# Altium footprint library WS-TATV.PcbLib: 24 footprints (part 2 of 2)
Each footprint in its own frame and in the unit in brackets; x right, y up, seen from the top. Pads: shape width x height; smd on the part's side, far side on the other; paste and mask are expansions set on the pad; w line width, h text height; cw(c..) or ccw(c..) is an arc to the next point about the centre after c.
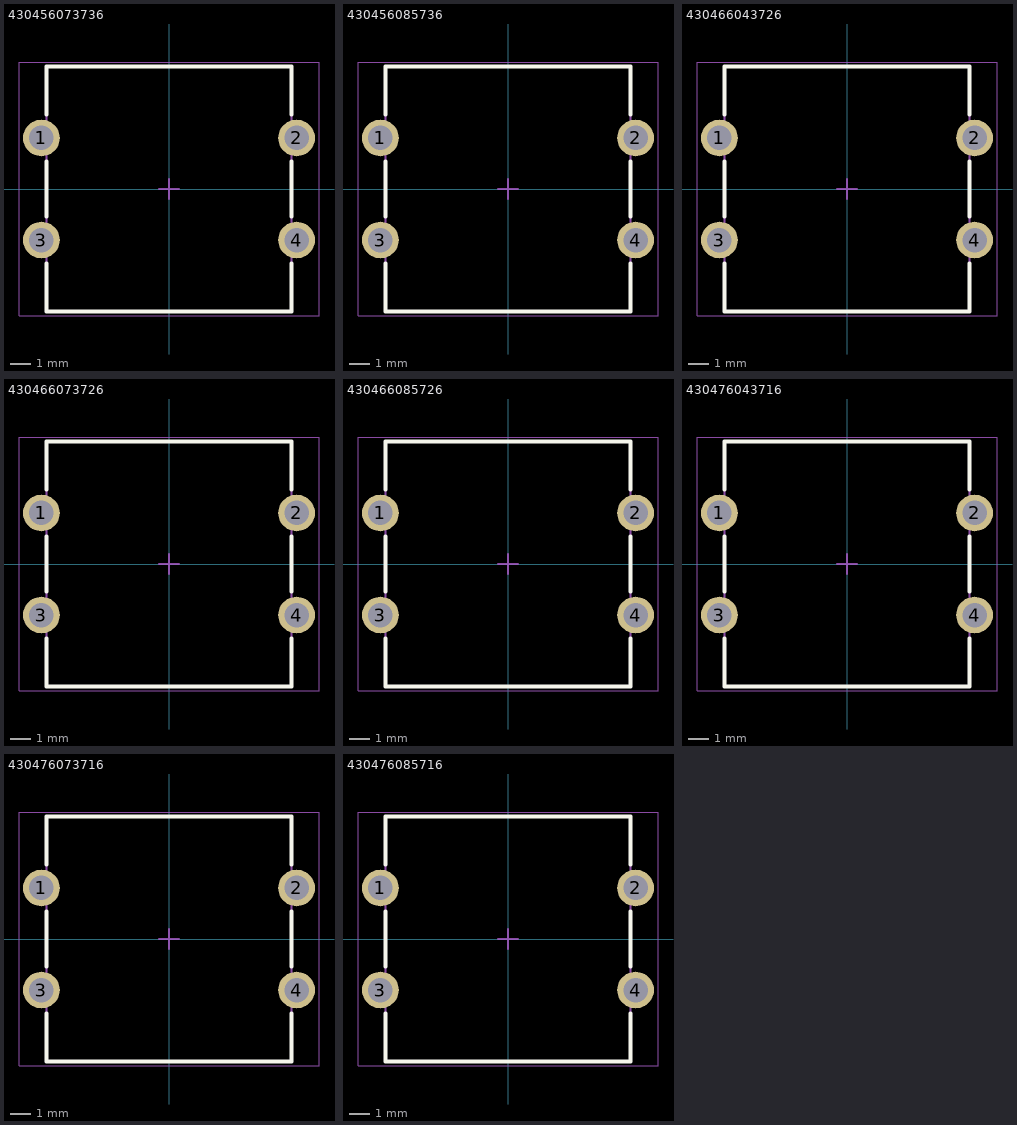
[diagram p1: the footprints below, top view; thin cyan lines are the x and y axes]

## 430456073736 [mm] "12x12mm washable Tact Switch, THT version"
height 7.3
pads (4):
  round 1.8 hole 1.2: 1(-6.25,2.5) 2(6.25,2.5) 3(-6.25,-2.5) 4(6.25,-2.5)
Top Overlay:
  lines w0.2: -6,-3.65 -6,-6 6,-6 6,-3.65 ; -6,-1.35 -6,1.35 ; -6,3.65 -6,6 6,6 6,3.65 ; 6,-1.35 6,1.35
Top Assembly:
  lines w0.1: -6,-6 -6,6 6,6 6,-6 -6,-6
Top Designator:
  text ".Designator" at -3.647,-0.357 h1
Top 3D Body:
  lines w0.1: -6,-6 -6,6 6,6 6,-6 -6,-6
Top Courtyard:
  lines w0.05: -7.35,-6.2 7.35,-6.2 7.35,6.2 -7.35,6.2 -7.35,-6.2
Top Component Center:
  lines w0.1: -0.5,0 0.5,0 ; 0,-0.5 0,0.5
3D body "4304x60737x6.stp": height 7.35, standoff -3.45, extent -6.985,-6 6.986,6

## 430456085736 [mm] "12x12mm washable Tact Switch, THT version"
height 8.5
pads (4):
  round 1.8 hole 1.2: 1(-6.25,2.5) 2(6.25,2.5) 3(-6.25,-2.5) 4(6.25,-2.5)
Top Overlay:
  lines w0.2: -6,-3.65 -6,-6 6,-6 6,-3.65 ; -6,-1.35 -6,1.35 ; -6,3.65 -6,6 6,6 6,3.65 ; 6,-1.35 6,1.35
Top Assembly:
  lines w0.1: -6,-6 -6,6 6,6 6,-6 -6,-6
Top Designator:
  text ".Designator" at -3.647,-0.357 h1
Top 3D Body:
  lines w0.1: -6,-6 -6,6 6,6 6,-6 -6,-6
Top Courtyard:
  lines w0.05: -7.35,-6.2 7.35,-6.2 7.35,6.2 -7.35,6.2 -7.35,-6.2
Top Component Center:
  lines w0.1: -0.5,0 0.5,0 ; 0,-0.5 0,0.5
3D body "4304x60857x6.stp": height 8.55, standoff -3.45, extent -6.985,-6 6.986,6

## 430466043726 [mm] "12x12mm washable Tact Switch, THT version"
height 4.3
pads (4):
  round 1.8 hole 1.2: 1(-6.25,2.5) 2(6.25,2.5) 3(-6.25,-2.5) 4(6.25,-2.5)
Top Overlay:
  lines w0.2: -6,-3.65 -6,-6 6,-6 6,-3.65 ; -6,-1.35 -6,1.35 ; -6,3.65 -6,6 6,6 6,3.65 ; 6,-1.35 6,1.35
Top Assembly:
  lines w0.1: -6,-6 6,-6 6,6 -6,6 -6,-6
Top Designator:
  text ".Designator" at -3.647,-0.357 h1
Top 3D Body:
  lines w0.1: -6,-6 -6,6 6,6 6,-6 -6,-6
Top Courtyard:
  lines w0.05: -7.35,-6.2 -7.35,6.2 7.35,6.2 7.35,-6.2 -7.35,-6.2
Top Component Center:
  lines w0.1: -0.5,0 0.5,0 ; 0,-0.5 0,0.5
3D body "4304x60437x6.stp": height 4.35, standoff -3.45, extent -6.985,-6 6.986,6

## 430466073726 [mm] "12x12mm washable Tact Switch, THT version"
height 7.3
pads (4):
  round 1.8 hole 1.2: 1(-6.25,2.5) 2(6.25,2.5) 3(-6.25,-2.5) 4(6.25,-2.5)
Top Overlay:
  lines w0.2: -6,-3.65 -6,-6 6,-6 6,-3.65 ; -6,-1.35 -6,1.35 ; -6,3.65 -6,6 6,6 6,3.65 ; 6,-1.35 6,1.35
Top Assembly:
  lines w0.1: -6,-6 6,-6 6,6 -6,6 -6,-6
Top Designator:
  text ".Designator" at -3.647,-0.357 h1
Top 3D Body:
  lines w0.1: -6,-6 -6,6 6,6 6,-6 -6,-6
Top Courtyard:
  lines w0.05: -7.35,-6.2 -7.35,6.2 7.35,6.2 7.35,-6.2 -7.35,-6.2
Top Component Center:
  lines w0.1: -0.5,0 0.5,0 ; 0,-0.5 0,0.5
3D body "4304x60737x6.stp": height 7.35, standoff -3.45, extent -6.985,-6 6.986,6

## 430466085726 [mm] "12x12mm washable Tact Switch, THT version"
height 8.5
pads (4):
  round 1.8 hole 1.2: 1(-6.25,2.5) 2(6.25,2.5) 3(-6.25,-2.5) 4(6.25,-2.5)
Top Overlay:
  lines w0.2: -6,-3.65 -6,-6 6,-6 6,-3.65 ; -6,-1.35 -6,1.35 ; -6,3.65 -6,6 6,6 6,3.65 ; 6,-1.35 6,1.35
Top Assembly:
  lines w0.1: -6,-6 6,-6 6,6 -6,6 -6,-6
Top Designator:
  text ".Designator" at -3.647,-0.357 h1
Top 3D Body:
  lines w0.1: -6,-6 -6,6 6,6 6,-6 -6,-6
Top Courtyard:
  lines w0.05: -7.35,-6.2 -7.35,6.2 7.35,6.2 7.35,-6.2 -7.35,-6.2
Top Component Center:
  lines w0.1: -0.5,0 0.5,0 ; 0,-0.5 0,0.5
3D body "4304x60857x6.stp": height 8.55, standoff -3.45, extent -6.985,-6 6.986,6

## 430476043716 [mm] "12x12mm washable Tact Switch, THT version"
height 4.3
pads (4):
  round 1.8 hole 1.2: 1(-6.25,2.5) 2(6.25,2.5) 3(-6.25,-2.5) 4(6.25,-2.5)
Top Overlay:
  lines w0.2: -6,-3.65 -6,-6 6,-6 6,-3.65 ; -6,-1.35 -6,1.35 ; -6,3.65 -6,6 6,6 6,3.65 ; 6,-1.35 6,1.35
Top Assembly:
  lines w0.1: -6,-6 -6,6 6,6 6,-6 -6,-6
Top Designator:
  text ".Designator" at -3.647,-0.357 h1
Top 3D Body:
  lines w0.1: -6,-6 -6,6 6,6 6,-6 -6,-6
Top Courtyard:
  lines w0.05: -7.35,-6.2 7.35,-6.2 7.35,6.2 -7.35,6.2 -7.35,-6.2
Top Component Center:
  lines w0.1: -0.5,0 0.5,0 ; 0,-0.5 0,0.5
3D body "4304x60437x6.stp": height 4.35, standoff -3.45, extent -6.985,-6 6.986,6

## 430476073716 [mm] "12x12mm washable Tact Switch, THT version"
height 7.3
pads (4):
  round 1.8 hole 1.2: 1(-6.25,2.5) 2(6.25,2.5) 3(-6.25,-2.5) 4(6.25,-2.5)
Top Overlay:
  lines w0.2: -6,-3.65 -6,-6 6,-6 6,-3.65 ; -6,-1.35 -6,1.35 ; -6,3.65 -6,6 6,6 6,3.65 ; 6,-1.35 6,1.35
Top Assembly:
  lines w0.1: -6,-6 6,-6 6,6 -6,6 -6,-6
Top Designator:
  text ".Designator" at -3.647,-0.357 h1
Top 3D Body:
  lines w0.1: -6,-6 6,-6 6,6 -6,6 -6,-6
Top Courtyard:
  lines w0.05: -7.35,-6.2 -7.35,6.2 7.35,6.2 7.35,-6.2 -7.35,-6.2
Top Component Center:
  lines w0.1: -0.5,0 0.5,0 ; 0,-0.5 0,0.5
3D body "4304x60737x6.stp": height 7.35, standoff -3.45, extent -6.985,-6 6.986,6

## 430476085716 [mm] "12x12mm washable Tact Switch, THT version"
height 8.5
pads (4):
  round 1.8 hole 1.2: 1(-6.25,2.5) 2(6.25,2.5) 3(-6.25,-2.5) 4(6.25,-2.5)
Top Overlay:
  lines w0.2: -6,-3.65 -6,-6 6,-6 6,-3.65 ; -6,-1.35 -6,1.35 ; -6,3.65 -6,6 6,6 6,3.65 ; 6,-1.35 6,1.35
Top Assembly:
  lines w0.1: -6,-6 -6,6 6,6 6,-6 -6,-6
Top Designator:
  text ".Designator" at -3.647,-0.357 h1
Top 3D Body:
  lines w0.1: -6,-6 -6,6 6,6 6,-6 -6,-6
Top Courtyard:
  lines w0.05: -7.35,-6.2 7.35,-6.2 7.35,6.2 -7.35,6.2 -7.35,-6.2
Top Component Center:
  lines w0.1: -0.5,0 0.5,0 ; 0,-0.5 0,0.5
3D body "4304x60857x6.stp": height 8.55, standoff -3.45, extent -6.985,-6 6.986,6